# EAGLE library part LM5000 (library LM5000)
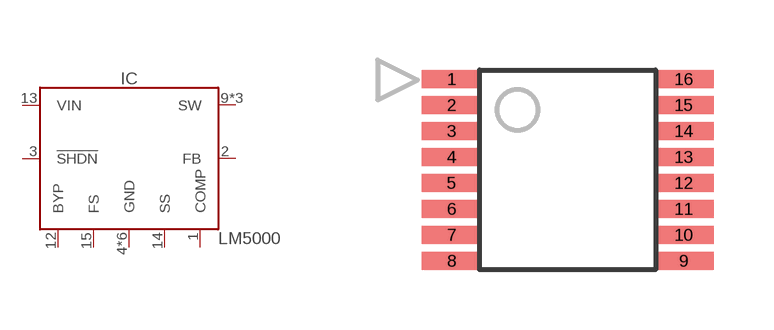
[diagram p0: symbol with the pads of TSSOP16; footprint TSSOP16]

Designator prefix IC

## LM5000-3MTC (MARK: LM5000 3MTC; MF: Texas Instruments; MPN: LM5000-3MTC/NOPB)  [TSSOP16]
1  COMP
2  FB
3  !SHDN
4  GND
5  GND
6  GND
7  GND
8  GND
9  SW
10  SW
11  SW
12  BYP
13  VIN
14  SS
15  FS
16  GND

## Footprint TSSOP16 (pad centres in mm)
smd 1.5 x 0.45: 1 -2.9,2.275; 2 -2.9,1.625; 3 -2.9,0.975; 4 -2.9,0.325; 5 -2.9,-0.325; 6 -2.9,-0.975; 7 -2.9,-1.625; 8 -2.9,-2.275; 9 2.9,-2.275; 10 2.9,-1.625; 11 2.9,-0.975; 12 2.9,-0.325; 13 2.9,0.325; 14 2.9,0.975; 15 2.9,1.625; 16 2.9,2.275